# Altium footprint library 6-146130-4.PcbLib: 1 footprints
Each footprint in its own frame and in the unit in brackets; x right, y up, seen from the top. Pads: shape width x height; smd on the part's side, far side on the other; paste and mask are expansions set on the pad; w line width, h text height; cw(c..) or ccw(c..) is an arc to the next point about the centre after c.
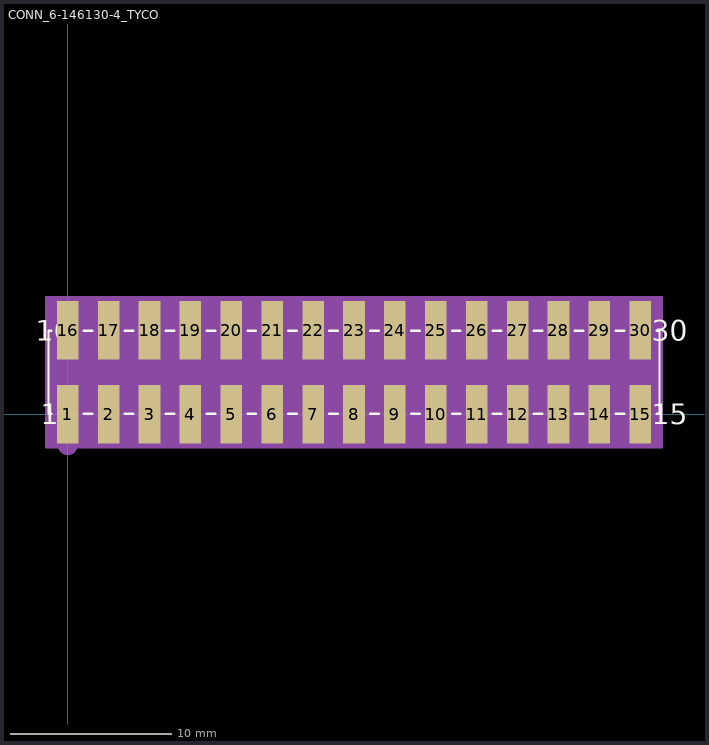
[diagram p0: the footprint, top view; thin cyan lines are the x and y axes]

## CONN_6-146130-4_TYCO [mil]
pads (30):
  rect 53x143 smd paste-71.5 mask-71.5: 1(0,0) 2(100,0) 3(200,0) 4(300,0) 5(400,0) 6(500,0) 7(600,0) 8(700,0) 9(800,0) 10(900,0) 11(1000,0) 12(1100,0) 13(1200,0) 14(1300,0) 15(1400,0) 16(0,205) 17(100,205) 18(200,205) 19(300,205) 20(400,205) 21(500,205) 22(600,205) 23(700,205) 24(800,205) 25(900,205) 26(1000,205) 27(1100,205) 28(1200,205) 29(1300,205) 30(1400,205)
Top Overlay:
  lines w6: -39.6,1.5 -47,1.5 -47,203.5 -39.6,203.5 ; 39.6,1.5 60.4,1.5 ; 39.6,203.5 60.4,203.5 ; 139.6,1.5 160.4,1.5 ; 139.6,203.5 160.4,203.5 ; 239.6,1.5 260.4,1.5 ; 239.6,203.5 260.4,203.5 ; 339.6,1.5 360.4,1.5 ; 339.6,203.5 360.4,203.5 ; 439.6,1.5 460.4,1.5 ; 439.6,203.5 460.4,203.5 ; 539.6,1.5 560.4,1.5 ; 539.6,203.5 560.4,203.5 ; 639.6,1.5 660.4,1.5 ; 639.6,203.5 660.4,203.5 ; 739.6,1.5 760.4,1.5 ; 739.6,203.5 760.4,203.5 ; 839.6,1.5 860.4,1.5 ; 839.6,203.5 860.4,203.5 ; 939.6,1.5 960.4,1.5 ; 939.6,203.5 960.4,203.5 ; 1039.6,1.5 1060.4,1.5 ; 1039.6,203.5 1060.4,203.5 ; 1139.6,1.5 1160.4,1.5 ; 1139.6,203.5 1160.4,203.5 ; 1239.6,1.5 1260.4,1.5 ; 1239.6,203.5 1260.4,203.5 ; 1339.6,1.5 1360.4,1.5 ; 1339.6,203.5 1360.4,203.5 ; 1439.6,1.5 1447,1.5 1447,203.5 1439.6,203.5
  text "1" at -65.5,-25 h50
  text "16" at -78,180 h50
  text "15" at 1428,-25 h50
  text "30" at 1428,180 h50
Bottom Overlay:
  circle w20: c0,-75 r15
  text "1" at -40.5,-25 h50
  text "16" at -28,180 h50
  text "15" at 1478,-25 h50
  text "30" at 1478,180 h50
Mechanical 13:
  circle w20: c0,-75 r15
  lines w1: -42,6.5 1442,6.5 1442,198.5 -42,198.5 -42,6.5
  text "1" at -65.5,-25 h50
  text "16" at -78,180 h50
  text "15" at 1428,-25 h50
  text "30" at 1428,180 h50
Mechanical 15:
  region: 1452,286.5 -52,286.5 -52,-81.5 1452,-81.5
  lines w6: -52,-81.5 -52,286.5 1452,286.5 1452,-81.5 -52,-81.5